# Altium schematic symbol library 2279732.SchLib: 1 symbol
Pins are listed as number, name and electrical type; pins without a type are passive.

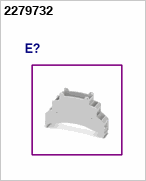
[diagram p0: symbol 2279732]

## 2279732
designator E?  (value not drawn)